# Altium footprint library PIC24FV16KM202-I&slash_SP.PcbLib: 1 footprints
Each footprint in its own frame and in the unit in brackets; x right, y up, seen from the top. Pads: shape width x height; smd on the part's side, far side on the other; paste and mask are expansions set on the pad; w line width, h text height; cw(c..) or ccw(c..) is an arc to the next point about the centre after c.
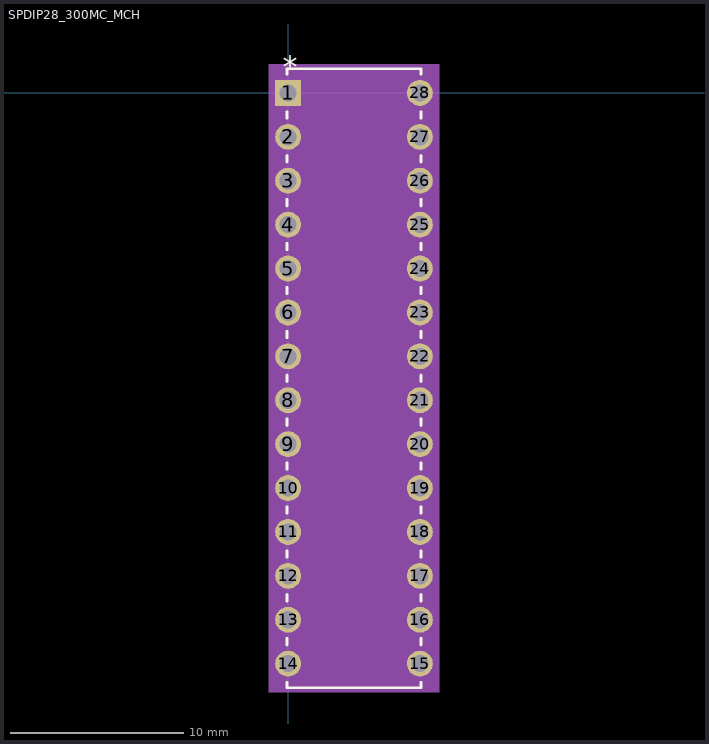
[diagram p0: the footprint, top view; thin cyan lines are the x and y axes]

## SPDIP28_300MC_MCH [mil]
pads (28):
  rect 59x59 hole 39 mask+0: 1(0,0)
  round 59 hole 39 mask+0: 2(0,-100) 3(0,-200) 4(0,-300) 5(0,-400) 6(0,-500) 7(0,-600) 8(0,-700) 9(0,-800) 10(0,-900) 11(0,-1000) 12(0,-1100) 13(0,-1200) 14(0,-1300) 15(300,-1300) 16(300,-1200) 17(300,-1100) 18(300,-1000) 19(300,-900) 20(300,-800) 21(300,-700) 22(300,-600) 23(300,-500) 24(300,-400) 25(300,-300) 26(300,-200) 27(300,-100) 28(300,0)
Top Overlay:
  lines w6: -2.5,-1342.53 -2.5,-1355 302.5,-1355 302.5,-1342.53 ; -2.5,-1257.47 -2.5,-1242.53 ; -2.5,-1157.47 -2.5,-1142.53 ; -2.5,-1057.47 -2.5,-1042.53 ; -2.5,-957.47 -2.5,-942.53 ; -2.5,-857.47 -2.5,-842.53 ; -2.5,-757.47 -2.5,-742.53 ; -2.5,-657.47 -2.5,-642.53 ; -2.5,-557.47 -2.5,-542.53 ; -2.5,-457.47 -2.5,-442.53 ; -2.5,-357.47 -2.5,-342.53 ; -2.5,-257.47 -2.5,-242.53 ; -2.5,-157.47 -2.5,-142.53 ; -2.5,-57.47 -2.5,-42.6 ; -2.5,42.6 -2.5,55 302.5,55 302.5,42.53 ; 302.5,-1257.47 302.5,-1242.53 ; 302.5,-1157.47 302.5,-1142.53 ; 302.5,-1057.47 302.5,-1042.53 ; 302.5,-957.47 302.5,-942.53 ; 302.5,-857.47 302.5,-842.53 ; 302.5,-757.47 302.5,-742.53 ; 302.5,-657.47 302.5,-642.53 ; 302.5,-557.47 302.5,-542.53 ; 302.5,-457.47 302.5,-442.53 ; 302.5,-357.47 302.5,-342.53 ; 302.5,-257.47 302.5,-242.53 ; 302.5,-157.47 302.5,-142.53 ; 302.5,-57.47 302.5,-42.53
  text "*" at -12.5,34.5 h50
Mechanical 5:
  region: 344.5,-1365 -44.5,-1365 -44.5,65 344.5,65
Mechanical 13:
  lines w0: 138,50 ccw(c150,50) 162,50
  lines w1: -19.5,-1319.5 -19.5,-1280.5 2.5,-1280.5 2.5,-1319.5 -19.5,-1319.5 ; -19.5,-1219.5 -19.5,-1180.5 2.5,-1180.5 2.5,-1219.5 -19.5,-1219.5 ; -19.5,-1119.5 -19.5,-1080.5 2.5,-1080.5 2.5,-1119.5 -19.5,-1119.5 ; -19.5,-1019.5 -19.5,-980.5 2.5,-980.5 2.5,-1019.5 -19.5,-1019.5 ; -19.5,-919.5 -19.5,-880.5 2.5,-880.5 2.5,-919.5 -19.5,-919.5 ; -19.5,-819.5 -19.5,-780.5 2.5,-780.5 2.5,-819.5 -19.5,-819.5 ; -19.5,-719.5 -19.5,-680.5 2.5,-680.5 2.5,-719.5 -19.5,-719.5 ; -19.5,-619.5 -19.5,-580.5 2.5,-580.5 2.5,-619.5 -19.5,-619.5 ; -19.5,-519.5 -19.5,-480.5 2.5,-480.5 2.5,-519.5 -19.5,-519.5 ; -19.5,-419.5 -19.5,-380.5 2.5,-380.5 2.5,-419.5 -19.5,-419.5 ; -19.5,-319.5 -19.5,-280.5 2.5,-280.5 2.5,-319.5 -19.5,-319.5 ; -19.5,-219.5 -19.5,-180.5 2.5,-180.5 2.5,-219.5 -19.5,-219.5 ; -19.5,-119.5 -19.5,-80.5 2.5,-80.5 2.5,-119.5 -19.5,-119.5 ; -19.5,-19.5 -19.5,19.5 2.5,19.5 2.5,-19.5 -19.5,-19.5 ; 2.5,-1350 297.5,-1350 297.5,50 2.5,50 2.5,-1350 ; 297.5,-1319.5 297.5,-1280.5 319.5,-1280.5 319.5,-1319.5 297.5,-1319.5 ; 297.5,-1219.5 297.5,-1180.5 319.5,-1180.5 319.5,-1219.5 297.5,-1219.5 ; 297.5,-1119.5 297.5,-1080.5 319.5,-1080.5 319.5,-1119.5 297.5,-1119.5 ; 297.5,-1019.5 297.5,-980.5 319.5,-980.5 319.5,-1019.5 297.5,-1019.5 ; 297.5,-919.5 297.5,-880.5 319.5,-880.5 319.5,-919.5 297.5,-919.5 ; 297.5,-819.5 297.5,-780.5 319.5,-780.5 319.5,-819.5 297.5,-819.5 ; 297.5,-719.5 297.5,-680.5 319.5,-680.5 319.5,-719.5 297.5,-719.5 ; 297.5,-619.5 297.5,-580.5 319.5,-580.5 319.5,-619.5 297.5,-619.5 ; 297.5,-519.5 297.5,-480.5 319.5,-480.5 319.5,-519.5 297.5,-519.5 ; 297.5,-419.5 297.5,-380.5 319.5,-380.5 319.5,-419.5 297.5,-419.5 ; 297.5,-319.5 297.5,-280.5 319.5,-280.5 319.5,-319.5 297.5,-319.5 ; 297.5,-219.5 297.5,-180.5 319.5,-180.5 319.5,-219.5 297.5,-219.5 ; 297.5,-119.5 297.5,-80.5 319.5,-80.5 319.5,-119.5 297.5,-119.5 ; 297.5,-19.5 297.5,19.5 319.5,19.5 319.5,-19.5 297.5,-19.5
  text "*" at 0,-25 h50
Mechanical 15:
  region: 307.5,-1340 339.5,-1340 339.5,40 307.5,40 307.5,60 -7.5,60 -7.5,40 -39.5,40 -39.5,-1340 -7.5,-1340 -7.5,-1360 307.5,-1360
  lines w6: -39.5,-1340 -39.5,40 -7.5,40 -7.5,60 307.5,60 307.5,40 339.5,40 339.5,-1340 307.5,-1340 307.5,-1360 -7.5,-1360 -7.5,-1340 -39.5,-1340
3D body "SPDIP28_300MC_MCH.step": height 205.12, standoff -100, extent -5,-1350 314.49,50